# Altium schematic symbol library TL431BIDBZR.Schlib: 1 symbol
Pins are listed as number, name and electrical type; pins without a type are passive.

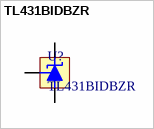
[diagram p0: symbol TL431BIDBZR]

## TL431BIDBZR
designator U?
IC VREF SHUNT 36V 0.5% SOT23-3
pins: 1, 2, 3